# EAGLE library part 87437-1043 (library custom)
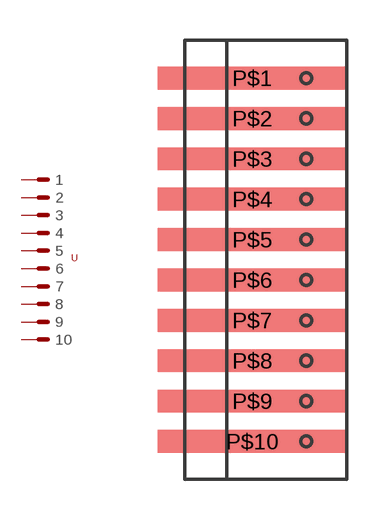
[diagram p20: symbol with the pads of 87437-1043; footprint 87437-1043]

Designator prefix -

## 87437-1043  [87437-1043]
P$1  1
P$2  2
P$3  3
P$4  4
P$5  5
P$6  6
P$7  7
P$8  8
P$9  9
P$10  10

## Footprint 87437-1043 (pad centres in mm)
smd 7 x 0.85: P$1 -0.05,6.75; P$2 -0.05,5.25; P$3 -0.05,3.75; P$4 -0.05,2.25; P$5 -0.05,0.75; P$6 -0.05,-0.75; P$7 -0.05,-2.25; P$8 -0.05,-3.75; P$9 -0.05,-5.25; P$10 -0.05,-6.75